# Altium footprint library PCB - POWER MODULE - RECOM POWER R-78E3.3-1.0.PcbLib: 1 footprints
Each footprint in its own frame and in the unit in brackets; x right, y up, seen from the top. Pads: shape width x height; smd on the part's side, far side on the other; paste and mask are expansions set on the pad; w line width, h text height; cw(c..) or ccw(c..) is an arc to the next point about the centre after c.
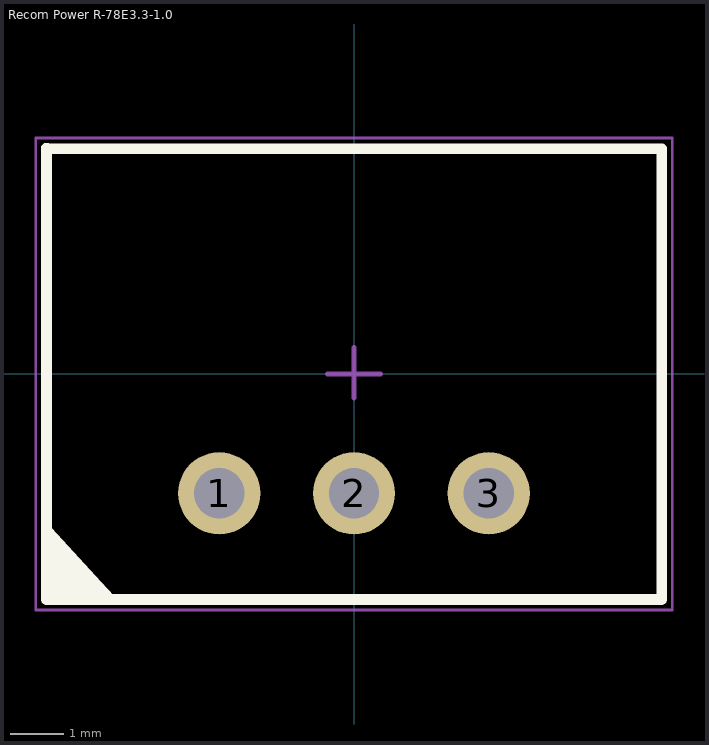
[diagram p0: the footprint, top view; thin cyan lines are the x and y axes]

## Recom Power R-78E3.3-1.0 [mm] "Linear Regulator Replacement DC DC Converter 1 Output 3.3V 1A 8V - 28V Input"
height 10.9
pads (3):
  round 1.55 hole 0.95: 1(-2.54,-2.25) 2(0,-2.25) 3(2.54,-2.25)
Top Overlay:
  region: -5.8,-4.35 -5.82,-4.35 -5.857,-4.335 -5.885,-4.307 -5.9,-4.27 -5.9,-4.25 -5.9,4.25 -5.9,4.292 -5.842,4.35 -5.758,4.35 -5.7,4.292 -5.7,4.25 -5.7,-2.911 -4.556,-4.15 5.8,-4.15 5.82,-4.15 5.857,-4.165 5.885,-4.193 5.9,-4.23 5.9,-4.25 5.9,-4.27 5.885,-4.307 5.857,-4.335 5.82,-4.35 5.8,-4.35
  lines w0.2: -5.8,-2.95 -4.6,-4.25 ; -5.8,-4.25 -5.8,4.25 5.8,4.25 5.8,-4.25 -5.8,-4.25
Mechanical 13:
  circle w0.2: c-2.54,-2.25 r0.519
  lines w0.1: -5.8,-4.25 5.8,-4.25 5.8,4.25 -5.8,4.25 -5.8,-4.25
Mechanical 15:
  lines w0.05: -6,-4.45 -6,4.45 6,4.45 6,-4.45 -6,-4.45
  lines w0.1: -0.5,0 0,0 ; 0,-0.45 0,0 ; 0,0.5 0,0 ; 0.5,0 0,0
3D body "Recom Power - R-78E3.3-1.0.step": height 10.9, standoff -2, extent -5.8,-4.25 5.8,4.25